# Altium footprint library Protel 99SE BANKS PCB.PCBLIB: 278 footprints (part 10 of 18)
Each footprint in its own frame and in the unit in brackets; x right, y up, seen from the top. Pads: shape width x height; smd on the part's side, far side on the other; paste and mask are expansions set on the pad; w line width, h text height; cw(c..) or ccw(c..) is an arc to the next point about the centre after c.
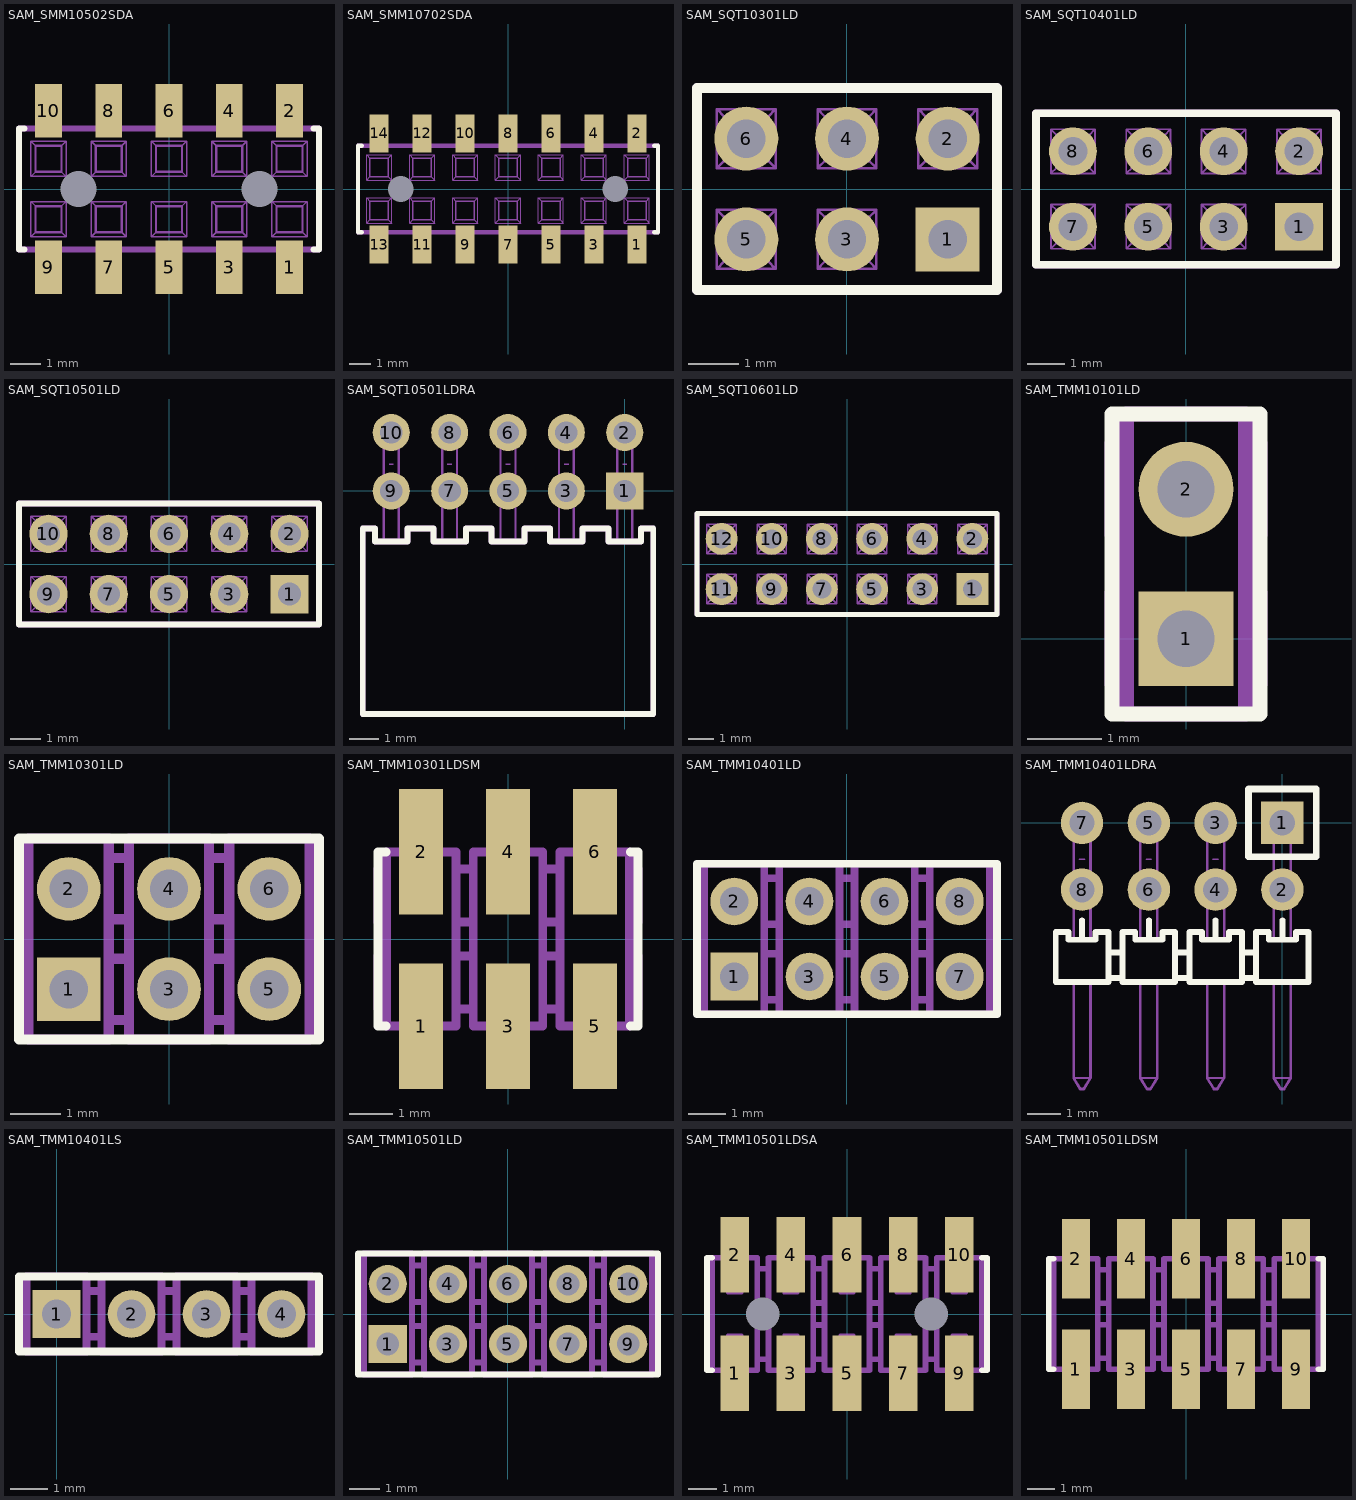
[diagram p9: the footprints below, top view; thin cyan lines are the x and y axes]

## SAM_SMM10502SDA [mil]
pads (12):
  rect 35x70 smd: 1(157.48,-102) 2(157.48,102) 3(78.74,-102) 4(78.74,102) 5(0,-102) 6(0,102) 7(-78.74,-102) 8(-78.74,102) 9(-157.48,-102) 10(-157.48,102)
  round 20 hole 47 unplated: ""(-118.11,0) ""(118.11,0)
TopOverlay:
  lines w8: -189,-79 -196,-79 -196,79 -189,79 ; 189,-79 196,-79 196,79 189,79
Mechanical3:
  drawing of 208 lines, arcs and shapes, not listed

## SAM_SMM10702SDA [mil]
pads (16):
  rect 35x70 smd: 1(236.22,-102) 2(236.22,102) 3(157.48,-102) 4(157.48,102) 5(78.74,-102) 6(78.74,102) 7(0,-102) 8(0,102) 9(-78.74,-102) 10(-78.74,102) 11(-157.48,-102) 12(-157.48,102) 13(-236.22,-102) 14(-236.22,102)
  round 20 hole 47 unplated: ""(-196.85,0) ""(196.85,0)
TopOverlay:
  lines w8: -268.22,-79 -275,-79 -275,79 -268.22,79 ; 268.26,-79 275,-79 275,79 268.26,79
Mechanical3:
  drawing of 292 lines, arcs and shapes, not listed

## SAM_SQT10301LD [mm]
pads (6):
  rect 1.27x1.27 hole 0.762: 1(2,-1)
  round 1.27 hole 0.762: 2(2,1) 3(0,-1) 4(0,1) 5(-2,-1) 6(-2,1)
TopOverlay:
  lines w0.203: -2.978,-2.007 2.978,-2.007 2.978,2.007 -2.978,2.007 -2.978,-2.007
Mechanical3:
  lines w0.051: -2.432,-1.432 -2.584,-1.584 ; -2.432,-0.568 -2.584,-0.416 ; -2.432,0.568 -2.584,0.416 ; -2.432,1.432 -2.584,1.584 ; -1.568,-1.432 -1.416,-1.584 ; -1.568,-0.568 -1.416,-0.416 ; -1.568,0.568 -1.416,0.416 ; -1.568,1.432 -1.416,1.584 ; -0.432,-1.432 -0.584,-1.584 ; -0.432,-0.568 -0.584,-0.416 ; -0.432,0.568 -0.584,0.416 ; -0.432,1.432 -0.584,1.584 ; 0.432,-1.432 0.584,-1.584 ; 0.432,-0.568 0.584,-0.416 ; 0.432,0.568 0.584,0.416 ; 0.432,1.432 0.584,1.584 ; 1.568,-1.432 1.416,-1.584 ; 1.568,-0.568 1.416,-0.416 ; 1.568,0.568 1.416,0.416 ; 1.568,1.432 1.416,1.584 ; 2.432,-1.432 2.584,-1.584 ; 2.432,-0.568 2.584,-0.416 ; 2.432,0.568 2.584,0.416 ; 2.432,1.432 2.584,1.584 ; -2.584,-1.584 -2.584,-0.416 ; -2.584,-1.584 -1.416,-1.584 ; -2.584,-0.416 -1.416,-0.416 ; -2.584,0.416 -2.584,1.584 ; -2.584,0.416 -1.416,0.416 ; -2.584,1.584 -1.416,1.584 ; -1.416,-1.584 -1.416,-0.416 ; -1.416,0.416 -1.416,1.584 ; -0.584,-1.584 -0.584,-0.416 ; -0.584,-1.584 0.584,-1.584 ; -0.584,-0.416 0.584,-0.416 ; -0.584,0.416 -0.584,1.584 ; -0.584,0.416 0.584,0.416 ; -0.584,1.584 0.584,1.584 ; 0.584,-1.584 0.584,-0.416 ; 0.584,0.416 0.584,1.584 ; 1.416,-1.584 1.416,-0.416 ; 1.416,-1.584 2.584,-1.584 ; 1.416,-0.416 2.584,-0.416 ; 1.416,0.416 1.416,1.584 ; 1.416,0.416 2.584,0.416 ; 1.416,1.584 2.584,1.584 ; 2.584,-1.584 2.584,-0.416 ; 2.584,0.416 2.584,1.584
  lines w0.076: -2.432,-1.432 -2.432,-0.568 -1.568,-0.568 -1.568,-1.432 -2.432,-1.432 ; -2.432,0.568 -2.432,1.432 -1.568,1.432 -1.568,0.568 -2.432,0.568 ; -0.432,-1.432 -0.432,-0.568 0.432,-0.568 0.432,-1.432 -0.432,-1.432 ; -0.432,0.568 -0.432,1.432 0.432,1.432 0.432,0.568 -0.432,0.568 ; 1.568,-1.432 1.568,-0.568 2.432,-0.568 2.432,-1.432 1.568,-1.432 ; 1.568,0.568 1.568,1.432 2.432,1.432 2.432,0.568 1.568,0.568
  lines w0.203: -2.978,-2.007 -2.978,2.007 2.978,2.007 2.978,-2.007 -2.978,-2.007

## SAM_SQT10401LD [mm]
pads (8):
  rect 1.27x1.27 hole 0.762: 1(3,-1)
  round 1.27 hole 0.762: 2(3,1) 3(1,-1) 4(1,1) 5(-1,-1) 6(-1,1) 7(-3,-1) 8(-3,1)
TopOverlay:
  lines w0.203: -3.978,-2.007 -3.978,2.007 3.978,2.007 3.978,-2.007 -3.978,-2.007
Mechanical3:
  lines w0.051: -3.432,-1.432 -3.584,-1.584 ; -3.432,-0.568 -3.584,-0.416 ; -3.432,0.568 -3.584,0.416 ; -3.432,1.432 -3.584,1.584 ; -2.568,-1.432 -2.416,-1.584 ; -2.568,-0.568 -2.416,-0.416 ; -2.568,0.568 -2.416,0.416 ; -2.568,1.432 -2.416,1.584 ; -1.432,-1.432 -1.584,-1.584 ; -1.432,-0.568 -1.584,-0.416 ; -1.432,0.568 -1.584,0.416 ; -1.432,1.432 -1.584,1.584 ; -0.568,-1.432 -0.416,-1.584 ; -0.568,-0.568 -0.416,-0.416 ; -0.568,0.568 -0.416,0.416 ; -0.568,1.432 -0.416,1.584 ; 0.568,-1.432 0.416,-1.584 ; 0.568,-0.568 0.416,-0.416 ; 0.568,0.568 0.416,0.416 ; 0.568,1.432 0.416,1.584 ; 1.432,-1.432 1.584,-1.584 ; 1.432,-0.568 1.584,-0.416 ; 1.432,0.568 1.584,0.416 ; 1.432,1.432 1.584,1.584 ; 2.568,-1.432 2.416,-1.584 ; 2.568,-0.568 2.416,-0.416 ; 2.568,0.568 2.416,0.416 ; 2.568,1.432 2.416,1.584 ; 3.432,-1.432 3.584,-1.584 ; 3.432,-0.568 3.584,-0.416 ; 3.432,0.568 3.584,0.416 ; 3.432,1.432 3.584,1.584 ; -3.584,-1.584 -2.416,-1.584 ; -3.584,-1.584 -3.584,-0.416 ; -3.584,-0.416 -2.416,-0.416 ; -3.584,0.416 -2.416,0.416 ; -3.584,0.416 -3.584,1.584 ; -3.584,1.584 -2.416,1.584 ; -2.416,-1.584 -2.416,-0.416 ; -2.416,0.416 -2.416,1.584 ; -1.584,-1.584 -0.416,-1.584 ; -1.584,-1.584 -1.584,-0.416 ; -1.584,-0.416 -0.416,-0.416 ; -1.584,0.416 -0.416,0.416 ; -1.584,0.416 -1.584,1.584 ; -1.584,1.584 -0.416,1.584 ; -0.416,-1.584 -0.416,-0.416 ; -0.416,0.416 -0.416,1.584 ; 0.416,-1.584 1.584,-1.584 ; 0.416,-1.584 0.416,-0.416 ; 0.416,-0.416 1.584,-0.416 ; 0.416,0.416 1.584,0.416 ; 0.416,0.416 0.416,1.584 ; 0.416,1.584 1.584,1.584 ; 1.584,-1.584 1.584,-0.416 ; 1.584,0.416 1.584,1.584 ; 2.416,-1.584 3.584,-1.584 ; 2.416,-1.584 2.416,-0.416 ; 2.416,-0.416 3.584,-0.416 ; 2.416,0.416 3.584,0.416 ; 2.416,0.416 2.416,1.584 ; 2.416,1.584 3.584,1.584 ; 3.584,-1.584 3.584,-0.416 ; 3.584,0.416 3.584,1.584
  lines w0.076: -3.432,-1.432 -2.568,-1.432 -2.568,-0.568 -3.432,-0.568 -3.432,-1.432 ; -3.432,0.568 -2.568,0.568 -2.568,1.432 -3.432,1.432 -3.432,0.568 ; -1.432,-1.432 -0.568,-1.432 -0.568,-0.568 -1.432,-0.568 -1.432,-1.432 ; -1.432,0.568 -0.568,0.568 -0.568,1.432 -1.432,1.432 -1.432,0.568 ; 0.568,-1.432 1.432,-1.432 1.432,-0.568 0.568,-0.568 0.568,-1.432 ; 0.568,0.568 1.432,0.568 1.432,1.432 0.568,1.432 0.568,0.568 ; 2.568,-1.432 3.432,-1.432 3.432,-0.568 2.568,-0.568 2.568,-1.432 ; 2.568,0.568 3.432,0.568 3.432,1.432 2.568,1.432 2.568,0.568
  lines w0.203: -3.978,-2.007 3.978,-2.007 3.978,2.007 -3.978,2.007 -3.978,-2.007

## SAM_SQT10501LD [mm]
pads (10):
  rect 1.27x1.27 hole 0.762: 1(4,-1)
  round 1.27 hole 0.762: 2(4,1) 3(2,-1) 4(2,1) 5(0,-1) 6(0,1) 7(-2,-1) 8(-2,1) 9(-4,-1) 10(-4,1)
TopOverlay:
  lines w0.203: -4.978,-2.007 4.978,-2.007 4.978,2.007 -4.978,2.007 -4.978,-2.007
Mechanical3:
  lines w0.051: -4.432,-1.432 -4.584,-1.584 ; -4.432,-0.568 -4.584,-0.416 ; -4.432,0.568 -4.584,0.416 ; -4.432,1.432 -4.584,1.584 ; -3.568,-1.432 -3.416,-1.584 ; -3.568,-0.568 -3.416,-0.416 ; -3.568,0.568 -3.416,0.416 ; -3.568,1.432 -3.416,1.584 ; -2.432,-1.432 -2.584,-1.584 ; -2.432,-0.568 -2.584,-0.416 ; -2.432,0.568 -2.584,0.416 ; -2.432,1.432 -2.584,1.584 ; -1.568,-1.432 -1.416,-1.584 ; -1.568,-0.568 -1.416,-0.416 ; -1.568,0.568 -1.416,0.416 ; -1.568,1.432 -1.416,1.584 ; -0.432,-1.432 -0.584,-1.584 ; -0.432,-0.568 -0.584,-0.416 ; -0.432,0.568 -0.584,0.416 ; -0.432,1.432 -0.584,1.584 ; 0.432,-1.432 0.584,-1.584 ; 0.432,-0.568 0.584,-0.416 ; 0.432,0.568 0.584,0.416 ; 0.432,1.432 0.584,1.584 ; 1.568,-1.432 1.416,-1.584 ; 1.568,-0.568 1.416,-0.416 ; 1.568,0.568 1.416,0.416 ; 1.568,1.432 1.416,1.584 ; 2.432,-1.432 2.584,-1.584 ; 2.432,-0.568 2.584,-0.416 ; 2.432,0.568 2.584,0.416 ; 2.432,1.432 2.584,1.584 ; 3.568,-1.432 3.416,-1.584 ; 3.568,-0.568 3.416,-0.416 ; 3.568,0.568 3.416,0.416 ; 3.568,1.432 3.416,1.584 ; 4.432,-1.432 4.584,-1.584 ; 4.432,-0.568 4.584,-0.416 ; 4.432,0.568 4.584,0.416 ; 4.432,1.432 4.584,1.584 ; -4.584,-1.584 -4.584,-0.416 ; -4.584,-1.584 -3.416,-1.584 ; -4.584,-0.416 -3.416,-0.416 ; -4.584,0.416 -4.584,1.584 ; -4.584,0.416 -3.416,0.416 ; -4.584,1.584 -3.416,1.584 ; -3.416,-1.584 -3.416,-0.416 ; -3.416,0.416 -3.416,1.584 ; -2.584,-1.584 -2.584,-0.416 ; -2.584,-1.584 -1.416,-1.584 ; -2.584,-0.416 -1.416,-0.416 ; -2.584,0.416 -2.584,1.584 ; -2.584,0.416 -1.416,0.416 ; -2.584,1.584 -1.416,1.584 ; -1.416,-1.584 -1.416,-0.416 ; -1.416,0.416 -1.416,1.584 ; -0.584,-1.584 -0.584,-0.416 ; -0.584,-1.584 0.584,-1.584 ; -0.584,-0.416 0.584,-0.416 ; -0.584,0.416 -0.584,1.584 ; -0.584,0.416 0.584,0.416 ; -0.584,1.584 0.584,1.584 ; 0.584,-1.584 0.584,-0.416 ; 0.584,0.416 0.584,1.584 ; 1.416,-1.584 1.416,-0.416 ; 1.416,-1.584 2.584,-1.584 ; 1.416,-0.416 2.584,-0.416 ; 1.416,0.416 1.416,1.584 ; 1.416,0.416 2.584,0.416 ; 1.416,1.584 2.584,1.584 ; 2.584,-1.584 2.584,-0.416 ; 2.584,0.416 2.584,1.584 ; 3.416,-1.584 3.416,-0.416 ; 3.416,-1.584 4.584,-1.584 ; 3.416,-0.416 4.584,-0.416 ; 3.416,0.416 3.416,1.584 ; 3.416,0.416 4.584,0.416 ; 3.416,1.584 4.584,1.584 ; 4.584,-1.584 4.584,-0.416 ; 4.584,0.416 4.584,1.584
  lines w0.076: -4.432,-1.432 -4.432,-0.568 -3.568,-0.568 -3.568,-1.432 -4.432,-1.432 ; -4.432,0.568 -4.432,1.432 -3.568,1.432 -3.568,0.568 -4.432,0.568 ; -2.432,-1.432 -2.432,-0.568 -1.568,-0.568 -1.568,-1.432 -2.432,-1.432 ; -2.432,0.568 -2.432,1.432 -1.568,1.432 -1.568,0.568 -2.432,0.568 ; -0.432,-1.432 -0.432,-0.568 0.432,-0.568 0.432,-1.432 -0.432,-1.432 ; -0.432,0.568 -0.432,1.432 0.432,1.432 0.432,0.568 -0.432,0.568 ; 1.568,-1.432 1.568,-0.568 2.432,-0.568 2.432,-1.432 1.568,-1.432 ; 1.568,0.568 1.568,1.432 2.432,1.432 2.432,0.568 1.568,0.568 ; 3.568,-1.432 3.568,-0.568 4.432,-0.568 4.432,-1.432 3.568,-1.432 ; 3.568,0.568 3.568,1.432 4.432,1.432 4.432,0.568 3.568,0.568
  lines w0.203: -4.978,-2.007 -4.978,2.007 4.978,2.007 4.978,-2.007 -4.978,-2.007

## SAM_SQT10501LDRA [mm]
pads (10):
  rect 1.27x1.27 hole 0.762: 1(0,0)
  round 1.27 hole 0.762: 2(0,2) 3(-2,0) 4(-2,2) 5(-4,0) 6(-4,2) 7(-6,0) 8(-6,2) 9(-8,0) 10(-8,2)
TopOverlay:
  lines w0.203: -8.978,-7.645 0.978,-7.645 ; -8.978,-7.595 -8.978,-1.295 -8.559,-1.295 -8.559,-1.727 -7.441,-1.727 -7.441,-1.295 -6.559,-1.295 -6.559,-1.727 -5.441,-1.727 -5.441,-1.295 -4.559,-1.295 -4.559,-1.727 -3.441,-1.727 -3.441,-1.295 -2.559,-1.295 -2.559,-1.727 -1.441,-1.727 -1.441,-1.295 -0.559,-1.295 -0.559,-1.727 0.559,-1.727 0.559,-1.295 0.978,-1.295 0.978,-7.595
Mechanical3:
  lines w0.051: -8.076,0.914 -7.924,0.914 ; -6.076,0.914 -5.924,0.914 ; -4.076,0.914 -3.924,0.914 ; -2.076,0.914 -1.924,0.914 ; -0.076,0.914 0.076,0.914
  lines w0.076: -8.254,-1.727 -8.254,2.261 -7.746,2.261 -7.746,-1.727 ; -6.254,-1.727 -6.254,2.261 -5.746,2.261 -5.746,-1.727 ; -4.254,-1.727 -4.254,2.261 -3.746,2.261 -3.746,-1.727 ; -2.254,-1.727 -2.254,2.261 -1.746,2.261 -1.746,-1.727 ; -0.254,-1.727 -0.254,2.261 0.254,2.261 0.254,-1.727
  lines w0.203: -8.978,-7.645 0.978,-7.645 ; -8.978,-7.595 -8.978,-1.295 -8.559,-1.295 -8.559,-1.727 -7.441,-1.727 -7.441,-1.295 -6.559,-1.295 -6.559,-1.727 -5.441,-1.727 -5.441,-1.295 -4.559,-1.295 -4.559,-1.727 -3.441,-1.727 -3.441,-1.295 -2.559,-1.295 -2.559,-1.727 -1.441,-1.727 -1.441,-1.295 -0.559,-1.295 -0.559,-1.727 0.559,-1.727 0.559,-1.295 0.978,-1.295 0.978,-7.595

## SAM_SQT10601LD [mm]
pads (12):
  rect 1.27x1.27 hole 0.762: 1(5,-1)
  round 1.27 hole 0.762: 2(5,1) 3(3,-1) 4(3,1) 5(1,-1) 6(1,1) 7(-1,-1) 8(-1,1) 9(-3,-1) 10(-3,1) 11(-5,-1) 12(-5,1)
TopOverlay:
  lines w0.203: -5.978,-2.007 5.978,-2.007 5.978,2.007 -5.978,2.007 -5.978,-2.007
Mechanical3:
  lines w0.051: -5.432,-1.432 -5.584,-1.584 ; -5.432,-0.568 -5.584,-0.416 ; -5.432,0.568 -5.584,0.416 ; -5.432,1.432 -5.584,1.584 ; -4.568,-1.432 -4.416,-1.584 ; -4.568,-0.568 -4.416,-0.416 ; -4.568,0.568 -4.416,0.416 ; -4.568,1.432 -4.416,1.584 ; -3.432,-1.432 -3.584,-1.584 ; -3.432,-0.568 -3.584,-0.416 ; -3.432,0.568 -3.584,0.416 ; -3.432,1.432 -3.584,1.584 ; -2.568,-1.432 -2.416,-1.584 ; -2.568,-0.568 -2.416,-0.416 ; -2.568,0.568 -2.416,0.416 ; -2.568,1.432 -2.416,1.584 ; -1.432,-1.432 -1.584,-1.584 ; -1.432,-0.568 -1.584,-0.416 ; -1.432,0.568 -1.584,0.416 ; -1.432,1.432 -1.584,1.584 ; -0.568,-1.432 -0.416,-1.584 ; -0.568,-0.568 -0.416,-0.416 ; -0.568,0.568 -0.416,0.416 ; -0.568,1.432 -0.416,1.584 ; 0.568,-1.432 0.416,-1.584 ; 0.568,-0.568 0.416,-0.416 ; 0.568,0.568 0.416,0.416 ; 0.568,1.432 0.416,1.584 ; 1.432,-1.432 1.584,-1.584 ; 1.432,-0.568 1.584,-0.416 ; 1.432,0.568 1.584,0.416 ; 1.432,1.432 1.584,1.584 ; 2.568,-1.432 2.416,-1.584 ; 2.568,-0.568 2.416,-0.416 ; 2.568,0.568 2.416,0.416 ; 2.568,1.432 2.416,1.584 ; 3.432,-1.432 3.584,-1.584 ; 3.432,-0.568 3.584,-0.416 ; 3.432,0.568 3.584,0.416 ; 3.432,1.432 3.584,1.584 ; 4.568,-1.432 4.416,-1.584 ; 4.568,-0.568 4.416,-0.416 ; 4.568,0.568 4.416,0.416 ; 4.568,1.432 4.416,1.584 ; 5.432,-1.432 5.584,-1.584 ; 5.432,-0.568 5.584,-0.416 ; 5.432,0.568 5.584,0.416 ; 5.432,1.432 5.584,1.584 ; -5.584,-1.584 -4.416,-1.584 ; -5.584,-1.584 -5.584,-0.416 ; -5.584,-0.416 -4.416,-0.416 ; -5.584,0.416 -4.416,0.416 ; -5.584,0.416 -5.584,1.584 ; -5.584,1.584 -4.416,1.584 ; -4.416,-1.584 -4.416,-0.416 ; -4.416,0.416 -4.416,1.584 ; -3.584,-1.584 -2.416,-1.584 ; -3.584,-1.584 -3.584,-0.416 ; -3.584,-0.416 -2.416,-0.416 ; -3.584,0.416 -2.416,0.416 ; -3.584,0.416 -3.584,1.584 ; -3.584,1.584 -2.416,1.584 ; -2.416,-1.584 -2.416,-0.416 ; -2.416,0.416 -2.416,1.584 ; -1.584,-1.584 -0.416,-1.584 ; -1.584,-1.584 -1.584,-0.416 ; -1.584,-0.416 -0.416,-0.416 ; -1.584,0.416 -0.416,0.416 ; -1.584,0.416 -1.584,1.584 ; -1.584,1.584 -0.416,1.584 ; -0.416,-1.584 -0.416,-0.416 ; -0.416,0.416 -0.416,1.584 ; 0.416,-1.584 1.584,-1.584 ; 0.416,-1.584 0.416,-0.416 ; 0.416,-0.416 1.584,-0.416 ; 0.416,0.416 1.584,0.416 ; 0.416,0.416 0.416,1.584 ; 0.416,1.584 1.584,1.584 ; 1.584,-1.584 1.584,-0.416 ; 1.584,0.416 1.584,1.584 ; 2.416,-1.584 3.584,-1.584 ; 2.416,-1.584 2.416,-0.416 ; 2.416,-0.416 3.584,-0.416 ; 2.416,0.416 3.584,0.416 ; 2.416,0.416 2.416,1.584 ; 2.416,1.584 3.584,1.584 ; 3.584,-1.584 3.584,-0.416 ; 3.584,0.416 3.584,1.584 ; 4.416,-1.584 5.584,-1.584 ; 4.416,-1.584 4.416,-0.416 ; 4.416,-0.416 5.584,-0.416 ; 4.416,0.416 5.584,0.416 ; 4.416,0.416 4.416,1.584 ; 4.416,1.584 5.584,1.584 ; 5.584,-1.584 5.584,-0.416 ; 5.584,0.416 5.584,1.584
  lines w0.076: -5.432,-1.432 -4.568,-1.432 -4.568,-0.568 -5.432,-0.568 -5.432,-1.432 ; -5.432,0.568 -4.568,0.568 -4.568,1.432 -5.432,1.432 -5.432,0.568 ; -3.432,-1.432 -2.568,-1.432 -2.568,-0.568 -3.432,-0.568 -3.432,-1.432 ; -3.432,0.568 -2.568,0.568 -2.568,1.432 -3.432,1.432 -3.432,0.568 ; -1.432,-1.432 -0.568,-1.432 -0.568,-0.568 -1.432,-0.568 -1.432,-1.432 ; -1.432,0.568 -0.568,0.568 -0.568,1.432 -1.432,1.432 -1.432,0.568 ; 0.568,-1.432 1.432,-1.432 1.432,-0.568 0.568,-0.568 0.568,-1.432 ; 0.568,0.568 1.432,0.568 1.432,1.432 0.568,1.432 0.568,0.568 ; 2.568,-1.432 3.432,-1.432 3.432,-0.568 2.568,-0.568 2.568,-1.432 ; 2.568,0.568 3.432,0.568 3.432,1.432 2.568,1.432 2.568,0.568 ; 4.568,-1.432 5.432,-1.432 5.432,-0.568 4.568,-0.568 4.568,-1.432 ; 4.568,0.568 5.432,0.568 5.432,1.432 4.568,1.432 4.568,0.568
  lines w0.203: -5.978,-2.007 5.978,-2.007 5.978,2.007 -5.978,2.007 -5.978,-2.007

## SAM_TMM10101LD [mil]
pads (2):
  rect 50x50 hole 30: 1(0,0)
  round 50 hole 30: 2(0,78.74)
TopOverlay:
  lines w8: -39.02,-39.63 39.02,-39.63 39.02,118.37 -39.02,118.37 -39.02,-39.63
Mechanical3:
  lines w2: -10,-10 -3,-3 ; -10,10 -3,3 ; -10,68.74 -3,75.74 ; -10,88.74 -3,81.74 ; 10,-10 3,-3 ; 10,10 3,3 ; 10,68.74 3,75.74 ; 10,88.74 3,81.74 ; -3,-3 -3,3 ; -3,-3 3,-3 ; -3,3 3,3 ; -3,75.74 -3,81.74 ; -3,75.74 3,75.74 ; -3,81.74 3,81.74 ; 3,-3 3,3 ; 3,75.74 3,81.74
  lines w4: -10,-10 -10,10 10,10 10,-10 -10,-10 ; -10,68.74 -10,88.74 10,88.74 10,68.74 -10,68.74
  lines w8: -31.5,-23.87 -39,-23.87 -39,24.13 -31.5,24.13 ; -31.5,54.87 -39,54.87 -39,102.87 -31.5,102.87 ; 31.5,-23.87 39,-23.87 39,24.13 31.5,24.13 ; 31.5,54.87 39,54.87 39,102.87 31.5,102.87 ; -31.5,-39.63 -31.5,118.37 31.5,118.37 31.5,-39.63 -31.5,-39.63

## SAM_TMM10301LD [mm]
pads (6):
  rect 1.27x1.27 hole 0.762: 1(-2,-1)
  round 1.27 hole 0.762: 2(-2,1) 3(0,-1) 4(0,1) 5(2,-1) 6(2,1)
TopOverlay:
  lines w0.203: -2.991,-2.007 -2.991,2.007 2.991,2.007 2.991,-2.007 -2.991,-2.007
Mechanical3:
  lines w0.051: -2.254,-1.254 -2.076,-1.076 ; -2.254,-0.746 -2.076,-0.924 ; -2.254,0.746 -2.076,0.924 ; -2.254,1.254 -2.076,1.076 ; -1.746,-1.254 -1.924,-1.076 ; -1.746,-0.746 -1.924,-0.924 ; -1.746,0.746 -1.924,0.924 ; -1.746,1.254 -1.924,1.076 ; -0.254,-1.254 -0.076,-1.076 ; -0.254,-0.746 -0.076,-0.924 ; -0.254,0.746 -0.076,0.924 ; -0.254,1.254 -0.076,1.076 ; 0.254,-1.254 0.076,-1.076 ; 0.254,-0.746 0.076,-0.924 ; 0.254,0.746 0.076,0.924 ; 0.254,1.254 0.076,1.076 ; 1.746,-1.254 1.924,-1.076 ; 1.746,-0.746 1.924,-0.924 ; 1.746,0.746 1.924,0.924 ; 1.746,1.254 1.924,1.076 ; 2.254,-1.254 2.076,-1.076 ; 2.254,-0.746 2.076,-0.924 ; 2.254,0.746 2.076,0.924 ; 2.254,1.254 2.076,1.076 ; -2.076,-1.076 -1.924,-1.076 ; -2.076,-1.076 -2.076,-0.924 ; -2.076,-0.924 -1.924,-0.924 ; -2.076,0.924 -1.924,0.924 ; -2.076,0.924 -2.076,1.076 ; -2.076,1.076 -1.924,1.076 ; -1.924,-1.076 -1.924,-0.924 ; -1.924,0.924 -1.924,1.076 ; -0.076,-1.076 0.076,-1.076 ; -0.076,-1.076 -0.076,-0.924 ; -0.076,-0.924 0.076,-0.924 ; -0.076,0.924 0.076,0.924 ; -0.076,0.924 -0.076,1.076 ; -0.076,1.076 0.076,1.076 ; 0.076,-1.076 0.076,-0.924 ; 0.076,0.924 0.076,1.076 ; 1.924,-1.076 2.076,-1.076 ; 1.924,-1.076 1.924,-0.924 ; 1.924,-0.924 2.076,-0.924 ; 1.924,0.924 2.076,0.924 ; 1.924,0.924 1.924,1.076 ; 1.924,1.076 2.076,1.076 ; 2.076,-1.076 2.076,-0.924 ; 2.076,0.924 2.076,1.076
  lines w0.102: -2.254,-1.254 -1.746,-1.254 -1.746,-0.746 -2.254,-0.746 -2.254,-1.254 ; -2.254,0.746 -1.746,0.746 -1.746,1.254 -2.254,1.254 -2.254,0.746 ; -0.254,-1.254 0.254,-1.254 0.254,-0.746 -0.254,-0.746 -0.254,-1.254 ; -0.254,0.746 0.254,0.746 0.254,1.254 -0.254,1.254 -0.254,0.746 ; 1.746,-1.254 2.254,-1.254 2.254,-0.746 1.746,-0.746 1.746,-1.254 ; 1.746,0.746 2.254,0.746 2.254,1.254 1.746,1.254 1.746,0.746
  lines w0.203: -2.8,-1.606 -2.991,-1.606 -2.991,-0.387 -2.8,-0.387 ; -2.8,0.394 -2.991,0.394 -2.991,1.613 -2.8,1.613 ; -1.194,-1.613 -0.8,-1.613 ; -1.194,-0.394 -0.8,-0.394 ; -1.194,0.394 -0.8,0.394 ; -1.194,1.613 -0.8,1.613 ; 0.806,-1.613 1.2,-1.613 ; 0.806,-0.394 1.2,-0.394 ; 0.806,0.394 1.2,0.394 ; 0.806,1.613 1.2,1.613 ; 2.8,-1.606 2.991,-1.606 2.991,-0.387 2.8,-0.387 ; 2.8,0.394 2.991,0.394 2.991,1.613 2.8,1.613 ; 1.2,-2.007 2.8,-2.007 ; 1.2,-2.007 2.8,-2.007 ; 1.2,-2.007 1.2,2.007 ; 1.2,2.007 2.8,2.007 ; 1.2,2.007 2.8,2.007 ; 2.8,-2.007 2.8,2.007 ; -2.8,-2.007 -1.2,-2.007 -1.2,2.007 -2.8,2.007 -2.8,-2.007 ; -0.8,-2.007 0.8,-2.007 0.8,2.007 -0.8,2.007 -0.8,-2.007

## SAM_TMM10301LDSM [mil]
pads (6):
  rect 40x114 smd: 1(-78.74,-79) 2(-78.74,79) 3(0,-79) 4(0,79) 5(78.74,-79) 6(78.74,79)
TopOverlay:
  lines w8: -110.74,-79 -117.76,-79 -117.76,79 -110.74,79 ; 110.78,-79 117.76,-79 117.76,79 110.78,79
Mechanical3:
  lines w2: -88.74,-123 -68.74,-123 ; -88.74,-49.37 -81.74,-42.37 ; -88.74,-29.37 -81.74,-36.37 ; -88.74,29.37 -81.74,36.37 ; -88.74,49.37 -81.74,42.37 ; -88.74,123 -68.74,123 ; -68.74,-49.37 -75.74,-42.37 ; -68.74,-29.37 -75.74,-36.37 ; -68.74,29.37 -75.74,36.37 ; -68.74,49.37 -75.74,42.37 ; -10,-123 10,-123 ; -10,-49.37 -3,-42.37 ; -10,-29.37 -3,-36.37 ; -10,29.37 -3,36.37 ; -10,49.37 -3,42.37 ; -10,123 10,123 ; 10,-49.37 3,-42.37 ; 10,-29.37 3,-36.37 ; 10,29.37 3,36.37 ; 10,49.37 3,42.37 ; 68.74,-123 88.74,-123 ; 68.74,-49.37 75.74,-42.37 ; 68.74,-29.37 75.74,-36.37 ; 68.74,29.37 75.74,36.37 ; 68.74,49.37 75.74,42.37 ; 68.74,123 88.74,123 ; 88.74,-49.37 81.74,-42.37 ; 88.74,-29.37 81.74,-36.37 ; 88.74,29.37 81.74,36.37 ; 88.74,49.37 81.74,42.37 ; -81.74,-42.37 -75.74,-42.37 ; -81.74,-42.37 -81.74,-36.37 ; -81.74,-36.37 -75.74,-36.37 ; -81.74,36.37 -75.74,36.37 ; -81.74,36.37 -81.74,42.37 ; -81.74,42.37 -75.74,42.37 ; -75.74,-42.37 -75.74,-36.37 ; -75.74,36.37 -75.74,42.37 ; -3,-42.37 3,-42.37 ; -3,-42.37 -3,-36.37 ; -3,-36.37 3,-36.37 ; -3,36.37 3,36.37 ; -3,36.37 -3,42.37 ; -3,42.37 3,42.37 ; 3,-42.37 3,-36.37 ; 3,36.37 3,42.37 ; 75.74,-42.37 81.74,-42.37 ; 75.74,-42.37 75.74,-36.37 ; 75.74,-36.37 81.74,-36.37 ; 75.74,36.37 81.74,36.37 ; 75.74,36.37 75.74,42.37 ; 75.74,42.37 81.74,42.37 ; 81.74,-42.37 81.74,-36.37 ; 81.74,36.37 81.74,42.37
  lines w4: -88.74,-79 -88.74,-123 -81.74,-130 -75.74,-130 -68.74,-123 -68.74,-79 ; -88.74,79 -88.74,123 -81.74,130 -75.74,130 -68.74,123 -68.74,79 ; -10,-79 -10,-123 -3,-130 3,-130 10,-123 10,-79 ; -10,79 -10,123 -3,130 3,130 10,123 10,79 ; 68.74,-79 68.74,-123 75.74,-130 81.74,-130 88.74,-123 88.74,-79 ; 68.74,79 68.74,123 75.74,130 81.74,130 88.74,123 88.74,79 ; -88.74,-49.37 -68.74,-49.37 -68.74,-29.37 -88.74,-29.37 -88.74,-49.37 ; -88.74,29.37 -68.74,29.37 -68.74,49.37 -88.74,49.37 -88.74,29.37 ; -10,-49.37 10,-49.37 10,-29.37 -10,-29.37 -10,-49.37 ; -10,29.37 10,29.37 10,49.37 -10,49.37 -10,29.37 ; 68.74,-49.37 88.74,-49.37 88.74,-29.37 68.74,-29.37 68.74,-49.37 ; 68.74,29.37 88.74,29.37 88.74,49.37 68.74,49.37 68.74,29.37
  lines w8: -110.24,-63.24 -117.74,-63.24 -117.74,-15.24 -110.24,-15.24 ; -110.24,15.5 -117.74,15.5 -117.74,63.5 -110.24,63.5 ; -47,-63.5 -31.5,-63.5 ; -47,-15.5 -31.5,-15.5 ; -47,15.5 -31.5,15.5 ; -47,63.5 -31.5,63.5 ; 31.74,-63.5 47.24,-63.5 ; 31.74,-15.5 47.24,-15.5 ; 31.74,15.5 47.24,15.5 ; 31.74,63.5 47.24,63.5 ; 110.24,-63.24 117.74,-63.24 117.74,-15.24 110.24,-15.24 ; 110.24,15.5 117.74,15.5 117.74,63.5 110.24,63.5 ; -110.24,-79 -47.24,-79 -47.24,79 -110.24,79 -110.24,-79 ; -31.5,-79 31.5,-79 31.5,79 -31.5,79 -31.5,-79 ; 47.24,-79 110.24,-79 110.24,79 47.24,79 47.24,-79

## SAM_TMM10401LD [mm]
pads (8):
  rect 1.27x1.27 hole 0.762: 1(-3,-1)
  round 1.27 hole 0.762: 2(-3,1) 3(-1,-1) 4(-1,1) 5(1,-1) 6(1,1) 7(3,-1) 8(3,1)
TopOverlay:
  lines w0.203: -3.991,-2.007 3.991,-2.007 3.991,2.007 -3.991,2.007 -3.991,-2.007
Mechanical3:
  lines w0.051: -3.254,-1.254 -3.076,-1.076 ; -3.254,-0.746 -3.076,-0.924 ; -3.254,0.746 -3.076,0.924 ; -3.254,1.254 -3.076,1.076 ; -2.746,-1.254 -2.924,-1.076 ; -2.746,-0.746 -2.924,-0.924 ; -2.746,0.746 -2.924,0.924 ; -2.746,1.254 -2.924,1.076 ; -1.254,-1.254 -1.076,-1.076 ; -1.254,-0.746 -1.076,-0.924 ; -1.254,0.746 -1.076,0.924 ; -1.254,1.254 -1.076,1.076 ; -0.746,-1.254 -0.924,-1.076 ; -0.746,-0.746 -0.924,-0.924 ; -0.746,0.746 -0.924,0.924 ; -0.746,1.254 -0.924,1.076 ; 0.746,-1.254 0.924,-1.076 ; 0.746,-0.746 0.924,-0.924 ; 0.746,0.746 0.924,0.924 ; 0.746,1.254 0.924,1.076 ; 1.254,-1.254 1.076,-1.076 ; 1.254,-0.746 1.076,-0.924 ; 1.254,0.746 1.076,0.924 ; 1.254,1.254 1.076,1.076 ; 2.746,-1.254 2.924,-1.076 ; 2.746,-0.746 2.924,-0.924 ; 2.746,0.746 2.924,0.924 ; 2.746,1.254 2.924,1.076 ; 3.254,-1.254 3.076,-1.076 ; 3.254,-0.746 3.076,-0.924 ; 3.254,0.746 3.076,0.924 ; 3.254,1.254 3.076,1.076 ; -3.076,-1.076 -3.076,-0.924 ; -3.076,-1.076 -2.924,-1.076 ; -3.076,-0.924 -2.924,-0.924 ; -3.076,0.924 -3.076,1.076 ; -3.076,0.924 -2.924,0.924 ; -3.076,1.076 -2.924,1.076 ; -2.924,-1.076 -2.924,-0.924 ; -2.924,0.924 -2.924,1.076 ; -1.076,-1.076 -1.076,-0.924 ; -1.076,-1.076 -0.924,-1.076 ; -1.076,-0.924 -0.924,-0.924 ; -1.076,0.924 -1.076,1.076 ; -1.076,0.924 -0.924,0.924 ; -1.076,1.076 -0.924,1.076 ; -0.924,-1.076 -0.924,-0.924 ; -0.924,0.924 -0.924,1.076 ; 0.924,-1.076 0.924,-0.924 ; 0.924,-1.076 1.076,-1.076 ; 0.924,-0.924 1.076,-0.924 ; 0.924,0.924 0.924,1.076 ; 0.924,0.924 1.076,0.924 ; 0.924,1.076 1.076,1.076 ; 1.076,-1.076 1.076,-0.924 ; 1.076,0.924 1.076,1.076 ; 2.924,-1.076 2.924,-0.924 ; 2.924,-1.076 3.076,-1.076 ; 2.924,-0.924 3.076,-0.924 ; 2.924,0.924 2.924,1.076 ; 2.924,0.924 3.076,0.924 ; 2.924,1.076 3.076,1.076 ; 3.076,-1.076 3.076,-0.924 ; 3.076,0.924 3.076,1.076
  lines w0.102: -3.254,-1.254 -3.254,-0.746 -2.746,-0.746 -2.746,-1.254 -3.254,-1.254 ; -3.254,0.746 -3.254,1.254 -2.746,1.254 -2.746,0.746 -3.254,0.746 ; -1.254,-1.254 -1.254,-0.746 -0.746,-0.746 -0.746,-1.254 -1.254,-1.254 ; -1.254,0.746 -1.254,1.254 -0.746,1.254 -0.746,0.746 -1.254,0.746 ; 0.746,-1.254 0.746,-0.746 1.254,-0.746 1.254,-1.254 0.746,-1.254 ; 0.746,0.746 0.746,1.254 1.254,1.254 1.254,0.746 0.746,0.746 ; 2.746,-1.254 2.746,-0.746 3.254,-0.746 3.254,-1.254 2.746,-1.254 ; 2.746,0.746 2.746,1.254 3.254,1.254 3.254,0.746 2.746,0.746
  lines w0.203: -3.8,-1.606 -3.991,-1.606 -3.991,-0.387 -3.8,-0.387 ; -3.8,0.394 -3.991,0.394 -3.991,1.613 -3.8,1.613 ; -2.194,-1.613 -1.8,-1.613 ; -2.194,-0.394 -1.8,-0.394 ; -2.194,0.394 -1.8,0.394 ; -2.194,1.613 -1.8,1.613 ; -0.194,-1.613 0.2,-1.613 ; -0.194,-0.394 0.2,-0.394 ; -0.194,0.394 0.2,0.394 ; -0.194,1.613 0.2,1.613 ; 1.8,-1.613 2.194,-1.613 ; 1.8,-0.394 2.194,-0.394 ; 1.8,0.394 2.194,0.394 ; 1.8,1.613 2.194,1.613 ; 3.8,-1.606 3.991,-1.606 3.991,-0.387 3.8,-0.387 ; 3.8,0.394 3.991,0.394 3.991,1.613 3.8,1.613 ; -3.8,-2.007 -3.8,2.007 -2.2,2.007 -2.2,-2.007 -3.8,-2.007 ; -1.8,-2.007 -1.8,2.007 -0.2,2.007 -0.2,-2.007 -1.8,-2.007 ; 0.2,-2.007 0.2,2.007 1.8,2.007 1.8,-2.007 0.2,-2.007 ; 2.2,-2.007 2.2,2.007 3.8,2.007 3.8,-2.007 2.2,-2.007

## SAM_TMM10401LDRA [mm]
pads (8):
  rect 1.27x1.27 hole 0.762: 1(0,0)
  round 1.27 hole 0.762: 2(0,-2) 3(-2,0) 4(-2,-2) 5(-4,0) 6(-4,-2) 7(-6,0) 8(-6,-2)
TopOverlay:
  lines w0.178: -6,-3.499 -6,-2.914 ; -5.213,-4.642 -4.791,-4.642 ; -5.213,-3.88 -4.791,-3.88 ; -4,-3.499 -4,-2.914 ; -3.213,-4.642 -2.791,-4.642 ; -3.213,-3.88 -2.791,-3.88 ; -2,-3.499 -2,-2.914 ; -1.213,-4.642 -0.791,-4.642 ; -1.213,-3.88 -0.791,-3.88 ; 0,-3.499 0,-2.914 ; -6.787,-4.769 -5.213,-4.769 -5.213,-3.27 -5.594,-3.27 -5.594,-3.499 -6.406,-3.499 -6.406,-3.27 -6.787,-3.27 -6.787,-4.769 ; -4.787,-4.769 -3.213,-4.769 -3.213,-3.27 -3.594,-3.27 -3.594,-3.499 -4.406,-3.499 -4.406,-3.27 -4.787,-3.27 -4.787,-4.769 ; -2.787,-4.769 -1.213,-4.769 -1.213,-3.27 -1.594,-3.27 -1.594,-3.499 -2.406,-3.499 -2.406,-3.27 -2.787,-3.27 -2.787,-4.769 ; -0.787,-4.769 0.787,-4.769 0.787,-3.27 0.406,-3.27 0.406,-3.499 -0.406,-3.499 -0.406,-3.27 -0.787,-3.27 -0.787,-4.769
  lines w0.203: -1.016,-1.016 -1.016,1.016 1.016,1.016 1.016,-1.016 -1.016,-1.016
Mechanical3:
  lines w0.051: -6.254,-7.639 -5.746,-7.639 ; -6.076,-1.086 -5.924,-1.086 ; -4.254,-7.639 -3.746,-7.639 ; -4.076,-1.086 -3.924,-1.086 ; -2.254,-7.639 -1.746,-7.639 ; -2.076,-1.086 -1.924,-1.086 ; -0.254,-7.639 0.254,-7.639 ; -0.076,-1.086 0.076,-1.086
  lines w0.076: -6.254,-4.769 -6.254,-7.639 -6.051,-7.969 -5.949,-7.969 -5.746,-7.639 -5.746,-4.769 ; -6.254,-3.499 -6.254,0.261 -5.746,0.261 -5.746,-3.499 ; -4.254,-4.769 -4.254,-7.639 -4.051,-7.969 -3.949,-7.969 -3.746,-7.639 -3.746,-4.769 ; -4.254,-3.499 -4.254,0.261 -3.746,0.261 -3.746,-3.499 ; -2.254,-4.769 -2.254,-7.639 -2.051,-7.969 -1.949,-7.969 -1.746,-7.639 -1.746,-4.769 ; -2.254,-3.499 -2.254,0.261 -1.746,0.261 -1.746,-3.499 ; -0.254,-4.769 -0.254,-7.639 -0.051,-7.969 0.051,-7.969 0.254,-7.639 0.254,-4.769 ; -0.254,-3.499 -0.254,0.261 0.254,0.261 0.254,-3.499
  lines w0.127: -5.213,-4.642 -4.791,-4.642 ; -5.213,-3.88 -4.791,-3.88 ; -3.213,-4.642 -2.791,-4.642 ; -3.213,-3.88 -2.791,-3.88 ; -1.213,-4.642 -0.791,-4.642 ; -1.213,-3.88 -0.791,-3.88 ; -6.787,-4.769 -5.213,-4.769 -5.213,-3.27 -5.594,-3.27 -5.594,-3.499 -6.406,-3.499 -6.406,-3.27 -6.787,-3.27 -6.787,-4.769 ; -4.787,-4.769 -3.213,-4.769 -3.213,-3.27 -3.594,-3.27 -3.594,-3.499 -4.406,-3.499 -4.406,-3.27 -4.787,-3.27 -4.787,-4.769 ; -2.787,-4.769 -1.213,-4.769 -1.213,-3.27 -1.594,-3.27 -1.594,-3.499 -2.406,-3.499 -2.406,-3.27 -2.787,-3.27 -2.787,-4.769 ; -0.787,-4.769 0.787,-4.769 0.787,-3.27 0.406,-3.27 0.406,-3.499 -0.406,-3.499 -0.406,-3.27 -0.787,-3.27 -0.787,-4.769

## SAM_TMM10401LS [mil]
pads (4):
  rect 50x50 hole 30: 1(0,0)
  round 50 hole 30: 2(78.74,0) 3(157.48,0) 4(236.22,0)
TopOverlay:
  lines w8: -39.37,-39.37 -39.37,39.37 275.59,39.37 275.59,-39.37 -39.37,-39.37
Mechanical3:
  lines w2: -10,-10 -3,-3 ; -10,10 -3,3 ; 10,-10 3,-3 ; 10,10 3,3 ; 68.74,-10 75.74,-3 ; 68.74,10 75.74,3 ; 88.74,-10 81.74,-3 ; 88.74,10 81.74,3 ; 147.48,-10 154.48,-3 ; 147.48,10 154.48,3 ; 167.48,-10 160.48,-3 ; 167.48,10 160.48,3 ; 226.22,-10 233.22,-3 ; 226.22,10 233.22,3 ; 246.22,-10 239.22,-3 ; 246.22,10 239.22,3 ; -3,-3 3,-3 ; -3,-3 -3,3 ; -3,3 3,3 ; 3,-3 3,3 ; 75.74,-3 81.74,-3 ; 75.74,-3 75.74,3 ; 75.74,3 81.74,3 ; 81.74,-3 81.74,3 ; 154.48,-3 160.48,-3 ; 154.48,-3 154.48,3 ; 154.48,3 160.48,3 ; 160.48,-3 160.48,3 ; 233.22,-3 239.22,-3 ; 233.22,-3 233.22,3 ; 233.22,3 239.22,3 ; 239.22,-3 239.22,3
  lines w4: -10,-10 10,-10 10,10 -10,10 -10,-10 ; 68.74,-10 88.74,-10 88.74,10 68.74,10 68.74,-10 ; 147.48,-10 167.48,-10 167.48,10 147.48,10 147.48,-10 ; 226.22,-10 246.22,-10 246.22,10 226.22,10 226.22,-10
  lines w8: -31.5,-23.87 -39,-23.87 -39,24.13 -31.5,24.13 ; 31.5,-23.87 47.24,-23.87 ; 31.5,24.13 47.24,24.13 ; 110.24,-23.87 125.98,-23.87 ; 110.24,24.13 125.98,24.13 ; 188.98,-23.87 204.72,-23.87 ; 188.98,24.13 204.72,24.13 ; 267.72,-23.87 275.22,-23.87 275.22,24.13 267.72,24.13 ; -31.5,-39.63 31.5,-39.63 31.5,39.63 -31.5,39.63 -31.5,-39.63 ; 47.24,-39.63 110.24,-39.63 110.24,39.63 47.24,39.63 47.24,-39.63 ; 125.98,-39.63 188.98,-39.63 188.98,39.63 125.98,39.63 125.98,-39.63 ; 204.72,-39.63 267.72,-39.63 267.72,39.63 204.72,39.63 204.72,-39.63

## SAM_TMM10501LD [mm]
pads (10):
  rect 1.27x1.27 hole 0.762: 1(-4,-1)
  round 1.27 hole 0.762: 2(-4,1) 3(-2,-1) 4(-2,1) 5(0,-1) 6(0,1) 7(2,-1) 8(2,1) 9(4,-1) 10(4,1)
TopOverlay:
  lines w0.203: -4.991,-2.007 4.991,-2.007 4.991,2.007 -4.991,2.007 -4.991,-2.007
Mechanical3:
  drawing of 168 lines, arcs and shapes, not listed

## SAM_TMM10501LDSA [mil]
pads (12):
  rect 40x106 smd: 1(-157.48,-83) 2(-157.48,83) 3(-78.74,-83) 4(-78.74,83) 5(0,-83) 6(0,83) 7(78.74,-83) 8(78.74,83) 9(157.48,-83) 10(157.48,83)
  round 20 hole 47 unplated: ""(-118.11,0) ""(118.11,0)
TopOverlay:
  lines w8: -189.48,-79 -196.5,-79 -196.5,79 -189.48,79 ; 189.52,-79 196.5,-79 196.5,79 189.52,79
Mechanical3:
  drawing of 228 lines, arcs and shapes, not listed

## SAM_TMM10501LDSM [mil]
pads (10):
  rect 40x114 smd: 1(-157.48,-79) 2(-157.48,79) 3(-78.74,-79) 4(-78.74,79) 5(0,-79) 6(0,79) 7(78.74,-79) 8(78.74,79) 9(157.48,-79) 10(157.48,79)
TopOverlay:
  lines w8: -189.48,-79 -196.5,-79 -196.5,79 -189.48,79 ; 189.52,-79 196.5,-79 196.5,79 189.52,79
Mechanical3:
  drawing of 228 lines, arcs and shapes, not listed